# Altium schematic symbol library BJT.SchLib: 32 symbols
Pins are listed as number, name and electrical type; pins without a type are passive.

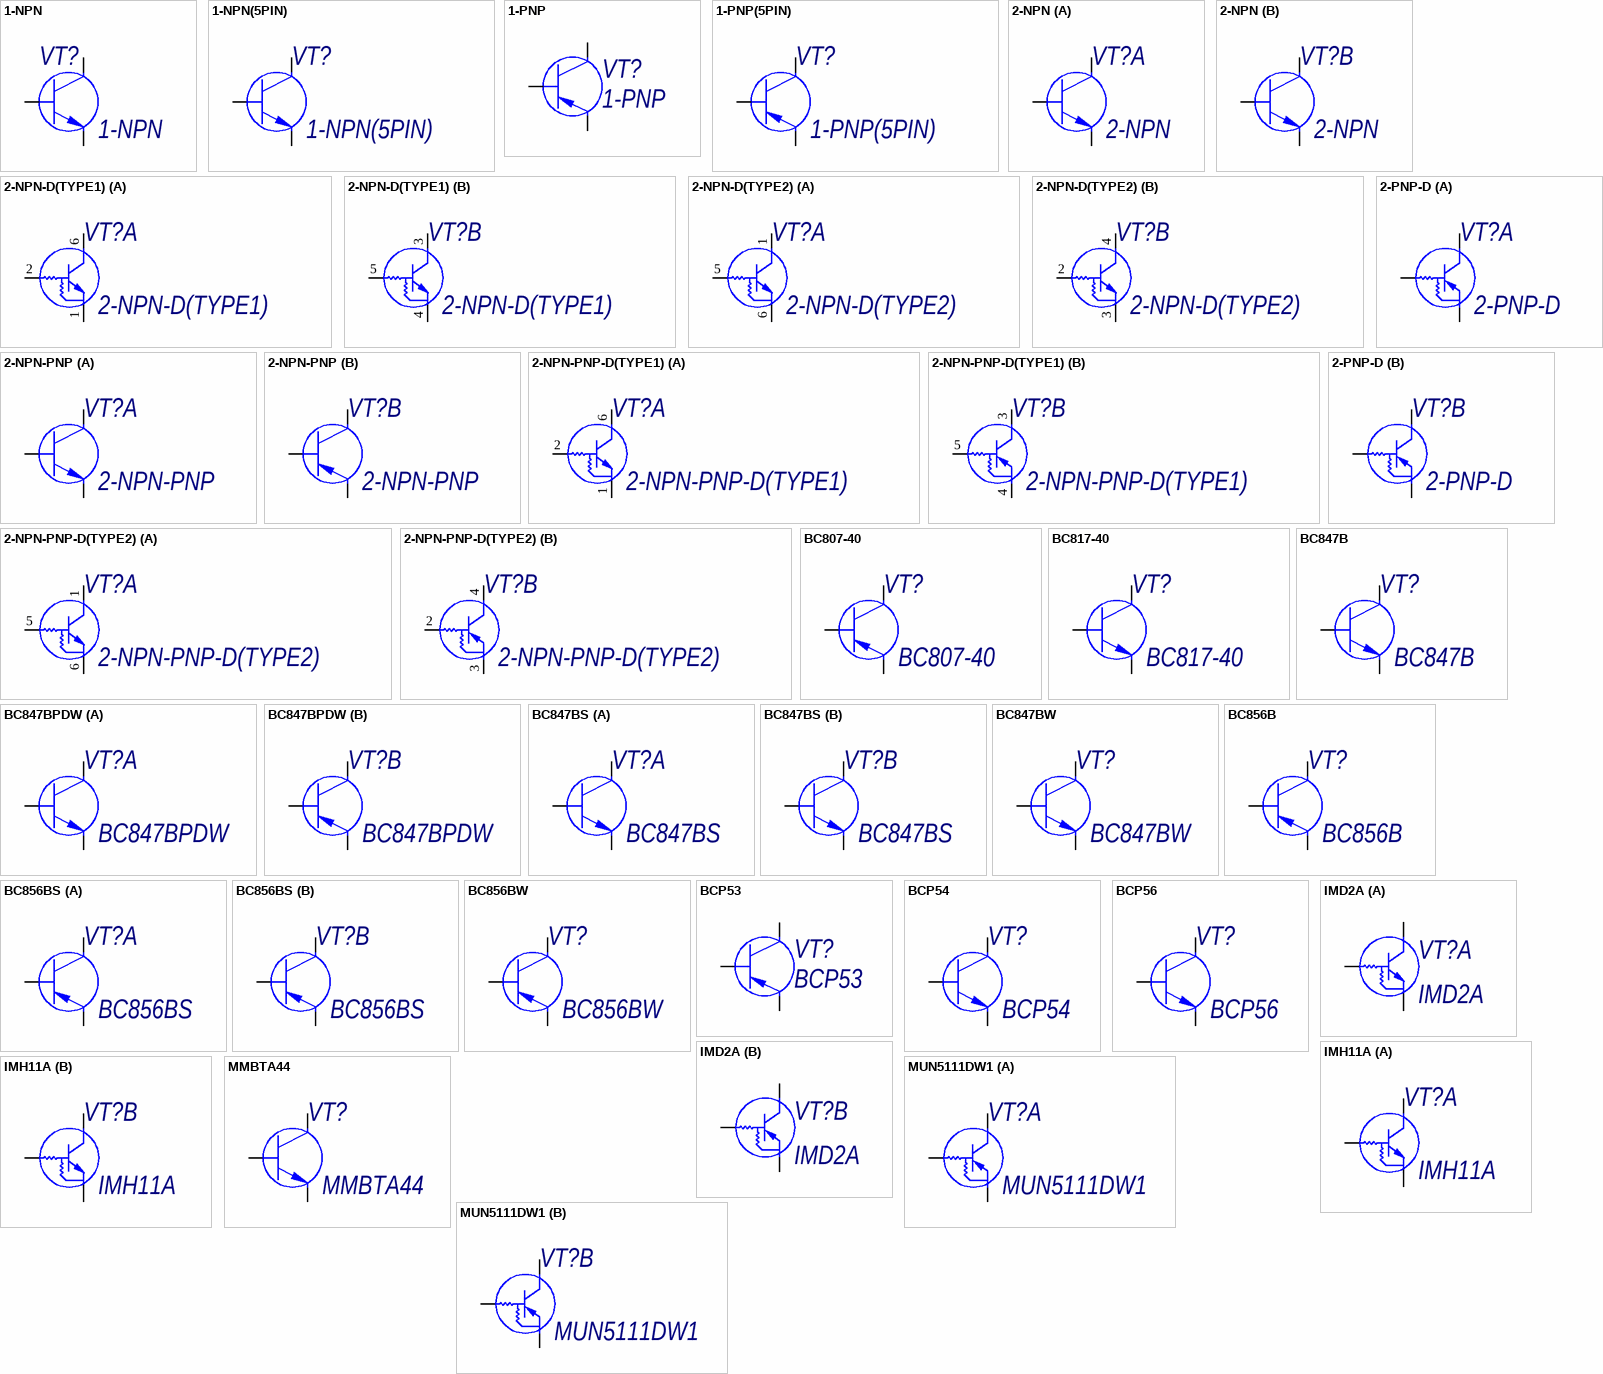
[diagram p0: symbols 1-NPN to MUN5111DW1]

## 1-NPN
designator VT?
ChannelType: NPN; ComponentType: Транзистор биполярный; ComponentDescription: =ComponentType+', '+ChannelType+', '+Comment+', '+Package
footprint SOT-23-3 (SOT23, 3-Leads, Body 2,90x2,30mm, Pitch 0,95mm, IPC Medium Density); pin to pad B>1 C>3 E>2
footprint TO-252 (D-PAK, 3-Pads, Body 6,20x6,71mm (max), IPC Medium Density); pin to pad B>1 C>4 E>3
footprint TO-220; pin to pad B>1 C>2 E>3
footprint TO-220-1A 2.54; pin to pad B>1 C>2 E>3
footprint SOT-89 (SOT89, 3-Leads, Body 4,50x2,50mm, Pitch 1,50mm, Lead Span 4,1mm, IPC Medium Density); pin to pad B>1 C>2 E>3
footprint TO-220-1A 2.54-LOW; pin to pad B>1 C>2 E>3
pins: B, C, E

## 1-NPN(5PIN)
designator VT?
ChannelType: NPN; ComponentType: Транзистор биполярный; ComponentDescription: =ComponentType+', '+ChannelType+', '+Comment+', '+Package
footprint 8-LFPAK56
pins: 1 E, 2 E, 3 E, 4 B, 5 C

## 1-PNP
designator VT?
ChannelType: PNP; ComponentType: Транзистор биполярный; ComponentDescription: =ComponentType+', '+ChannelType+', '+Comment+', '+Package
footprint SOT-23-3 (SOT23, 3-Leads, Body 2,90x2,30mm, Pitch 0,95mm, IPC Medium Density); pin to pad B>1 C>3 E>2
footprint TO-220; pin to pad B>1 C>2 E>3
footprint TO-220-1A 2.54; pin to pad B>1 C>2 E>3
footprint TO-220-1A 2.54-LOW; pin to pad B>1 C>2 E>3
footprint SOT-89 (SOT89, 3-Leads, Body 4,50x2,50mm, Pitch 1,50mm, Lead Span 4,1mm, IPC Medium Density); pin to pad B>1 C>2 E>3
pins: B, C, E

## 1-PNP(5PIN)
designator VT?
ChannelType: PNP; ComponentDescription: =ComponentType+', '+ChannelType+', '+Comment+', '+Package; ComponentType: Транзистор биполярный
footprint 8-LFPAK56
pins: 1 E, 2 E, 3 E, 4 B, 5 C

## 2-NPN
designator VT?
ComponentDescription: =ComponentType+', '+ChannelType+', '+Comment+', '+Package; ComponentType: Транзисторная сборка; ChannelType: 2-NPN
footprint SOT-323-6 (SOTFL, 6-Leads, Body 2,00x2,10mm, Pitch 0,65mm, IPC Medium Density)
part A pins: 1 E, 2 B, 6 C
part B pins: 3 C, 4 E, 5 B

## 2-NPN-D(TYPE1)
designator VT?
ChannelType: 2-NPN; ComponentDescription: =ComponentType+', '+ChannelType+', '+Comment+', '+Package; ComponentType: Цифровая сборка
footprint SOT-323-6 (SOTFL, 6-Leads, Body 2,00x2,10mm, Pitch 0,65mm, IPC Medium Density)
part A pins: 1 E, 2 B, 6 C
part B pins: 3 C, 4 E, 5 B

## 2-NPN-D(TYPE2)
designator VT?
ChannelType: 2-NPN; ComponentDescription: =ComponentType+', '+ChannelType+', '+Comment+', '+Package; ComponentType: Цифровая сборка
footprint SOT-457-6-R (SOP, 6-Leads, Body 3,18x1,80mm, Pitch 0,95mm, IPC Medium Density)
part A pins: 1 C, 5 B, 6 E
part B pins: 2 B, 3 E, 4 C

## 2-NPN-PNP
designator VT?
ComponentDescription: =ComponentType+', '+ChannelType+', '+Comment+', '+Package; ComponentType: Транзисторная сборка; ChannelType: NPN-PNP
footprint SOT-323-6 (SOTFL, 6-Leads, Body 2,00x2,10mm, Pitch 0,65mm, IPC Medium Density)
part A pins: 1 E, 2 B, 6 C
part B pins: 3 C, 4 E, 5 B

## 2-NPN-PNP-D(TYPE1)
designator VT?
ComponentDescription: =ComponentType+', '+ChannelType+', '+Comment+', '+Package; ComponentType: Цифровая сборка; ChannelType: NPN-PNP
footprint SOT-323-6 (SOTFL, 6-Leads, Body 2,00x2,10mm, Pitch 0,65mm, IPC Medium Density)
part A pins: 1 E, 2 B, 6 C
part B pins: 3 C, 4 E, 5 B

## 2-NPN-PNP-D(TYPE2)
designator VT?
ComponentDescription: =ComponentType+', '+ChannelType+', '+Comment+', '+Package; ComponentType: Цифровая сборка; ChannelType: NPN-PNP
footprint SOT-457-6-R (SOP, 6-Leads, Body 3,18x1,80mm, Pitch 0,95mm, IPC Medium Density)
part A pins: 1 C, 5 B, 6 E
part B pins: 2 B, 3 E, 4 C

## 2-PNP-D
designator VT?
ChannelType: 2-PNP; ComponentDescription: =ComponentType+', '+ChannelType+', '+Comment+', '+Package; ComponentType: Цифровая сборка
footprint SOT-323-6 (SOTFL, 6-Leads, Body 2,00x2,10mm, Pitch 0,65mm, IPC Medium Density)
footprint SOT-457-6-R (SOP, 6-Leads, Body 3,18x1,80mm, Pitch 0,95mm, IPC Medium Density)
part A pins: 1 E, 2 B, 6 C
part B pins: 3 C, 4 E, 5 B

## BC807-40
designator VT?
ChannelType: PNP; ComponentType: Транзистор биполярный; ComponentDescription: =ComponentType+', '+ChannelType+', '+Comment+', '+Package
footprint SOT-23-3 (SOT23, 3-Leads, Body 2,90x2,30mm, Pitch 0,95mm, IPC Medium Density)
pins: 1 B, 2 E, 3 C

## BC817-40
designator VT?
ChannelType: NPN; ComponentType: Транзистор биполярный; ComponentDescription: =ComponentType+', '+ChannelType+', '+Comment+', '+Package
footprint SOT-23-3 (SOT23, 3-Leads, Body 2,90x2,30mm, Pitch 0,95mm, IPC Medium Density)
pins: 1 B, 2 E, 3 C

## BC847B
designator VT?
ChannelType: NPN; ComponentType: Транзистор биполярный; ComponentDescription: =ComponentType+', '+ChannelType+', '+Comment+', '+Package
footprint SOT-23-3 (SOT23, 3-Leads, Body 2,90x2,30mm, Pitch 0,95mm, IPC Medium Density)
pins: 1 B, 2 E, 3 C

## BC847BPDW
designator VT?
ChannelType: NPN-PNP; ComponentDescription: =ComponentType+', '+ChannelType+', '+Comment+', '+Package; ComponentType: Транзисторная сборка
footprint SOT-323-6 (SOTFL, 6-Leads, Body 2,00x2,10mm, Pitch 0,65mm, IPC Medium Density)
part A pins: 1 E, 2 B, 6 C
part B pins: 3 C, 4 E, 5 B

## BC847BS
designator VT?
ChannelType: 2-NPN; ComponentDescription: =ComponentType+', '+ChannelType+', '+Comment+', '+Package; ComponentType: Транзисторная сборка
footprint SOT-323-6 (SOTFL, 6-Leads, Body 2,00x2,10mm, Pitch 0,65mm, IPC Medium Density)
part A pins: 1 E, 2 B, 6 C
part B pins: 3 C, 4 E, 5 B

## BC847BW
designator VT?
ChannelType: NPN; ComponentType: Транзистор биполярный; ComponentDescription: =ComponentType+', '+ChannelType+', '+Comment+', '+Package
footprint SOT-323-3 (SOT-323/SC-70; 3 Leads; Body 2.2 x 2.2 mm, inc. leads (LxW max))
pins: 1 B, 2 E, 3 C

## BC856B
designator VT?
ChannelType: PNP; ComponentType: Транзистор биполярный; ComponentDescription: =ComponentType+', '+ChannelType+', '+Comment+', '+Package
footprint SOT-23-3 (SOT23, 3-Leads, Body 2,90x2,30mm, Pitch 0,95mm, IPC Medium Density)
pins: 1 B, 2 E, 3 C

## BC856BS
designator VT?
ChannelType: 2-NPN; ComponentDescription: =ComponentType+', '+ChannelType+', '+Comment+', '+Package; ComponentType: Транзисторная сборка
footprint SOT-323-6 (SOTFL, 6-Leads, Body 2,00x2,10mm, Pitch 0,65mm, IPC Medium Density)
part A pins: 1 E, 2 B, 6 C
part B pins: 3 C, 4 E, 5 B

## BC856BW
designator VT?
ChannelType: PNP; ComponentType: Транзистор биполярный; ComponentDescription: =ComponentType+', '+ChannelType+', '+Comment+', '+Package
footprint SOT-323-3 (SOT-323/SC-70; 3 Leads; Body 2.2 x 2.2 mm, inc. leads (LxW max))
pins: 1 B, 2 E, 3 C

## BCP53
designator VT?
ChannelType: PNP; ComponentDescription: =ComponentType+', '+ChannelType+', '+Comment+', '+Package; ComponentType: Транзистор биполярный
footprint SOT-223-4 (SOT223, 4-Leads, Body 6,50x7,00mm (avg), Pitch 2,30mm, IPC Medium Density)
pins: 1 B, 2 C, 3 E

## BCP54
designator VT?
ChannelType: NPN; ComponentType: Транзистор биполярный; ComponentDescription: =ComponentType+', '+ChannelType+', '+Comment+', '+Package
footprint SOT-223-4 (SOT223, 4-Leads, Body 6,50x7,00mm (avg), Pitch 2,30mm, IPC Medium Density)
pins: 1 B, 2 C, 3 E

## BCP56
designator VT?
ChannelType: NPN; ComponentType: Транзистор биполярный; ComponentDescription: =ComponentType+', '+ChannelType+', '+Comment+', '+Package
footprint SOT-223-4 (SOT223, 4-Leads, Body 6,50x7,00mm (avg), Pitch 2,30mm, IPC Medium Density)
pins: 1 B, 2 C, 3 E

## IMD2A
designator VT?
ChannelType: NPN-PNP; ComponentDescription: =ComponentType+', '+ChannelType+', '+Comment+', '+Package; ComponentType: Цифровая сборка
footprint SOT-457-6-R (SOP, 6-Leads, Body 3,18x1,80mm, Pitch 0,95mm, IPC Medium Density)
part A pins: 1 C, 5 B, 6 E
part B pins: 2 B, 3 E, 4 C

## IMH11A
designator VT?
ChannelType: 2-NPN; ComponentDescription: =ComponentType+', '+ChannelType+', '+Comment+', '+Package; ComponentType: Цифровая сборка
footprint SOT-457-6-R (SOP, 6-Leads, Body 3,18x1,80mm, Pitch 0,95mm, IPC Medium Density)
part A pins: 1 C, 5 B, 6 E
part B pins: 2 B, 3 E, 4 C

## MMBTA44
designator VT?
ChannelType: NPN; ComponentType: Транзистор биполярный; ComponentDescription: =ComponentType+', '+ChannelType+', '+Comment+', '+Package
footprint SOT-23-3 (SOT23, 3-Leads, Body 2,90x2,30mm, Pitch 0,95mm, IPC Medium Density)
pins: 1 B, 2 E, 3 C

## MUN5111DW1
designator VT?
ChannelType: 2-PNP; ComponentDescription: =ComponentType+', '+ChannelType+', '+Comment+', '+Package; ComponentType: Цифровая сборка
footprint SOT-323-6 (SOTFL, 6-Leads, Body 2,00x2,10mm, Pitch 0,65mm, IPC Medium Density)
part A pins: 1 E, 2 B, 6 C
part B pins: 3 C, 4 E, 5 B

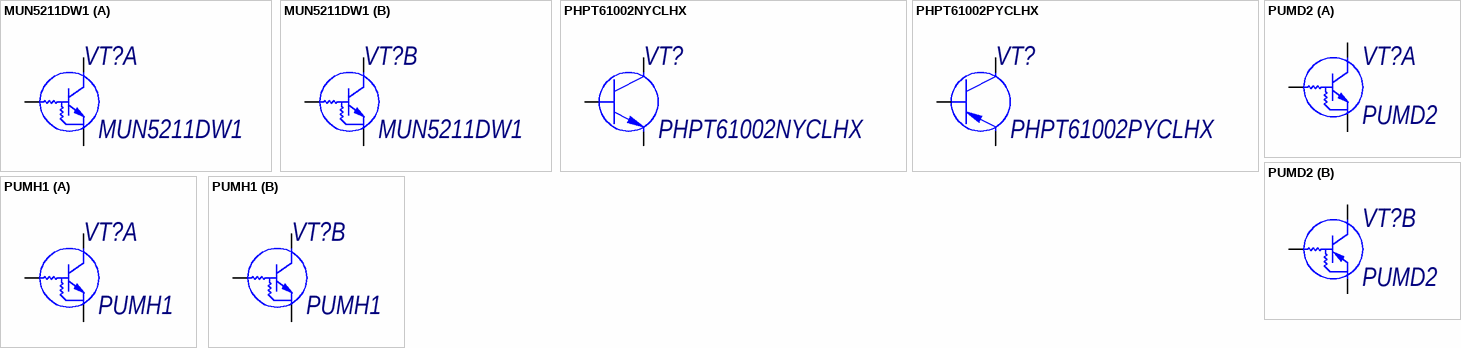
[diagram p1: symbols MUN5211DW1 to PUMH1]

## MUN5211DW1
designator VT?
ChannelType: 2-NPN; ComponentDescription: =ComponentType+', '+ChannelType+', '+Comment+', '+Package; ComponentType: Цифровая сборка
footprint SOT-323-6 (SOTFL, 6-Leads, Body 2,00x2,10mm, Pitch 0,65mm, IPC Medium Density)
part A pins: 1 E, 2 B, 6 C
part B pins: 3 C, 4 E, 5 B

## PHPT61002NYCLHX
designator VT?
ChannelType: NPN; ComponentType: Транзистор биполярный; ComponentDescription: =ComponentType+', '+ChannelType+', '+Comment+', '+Package
footprint 8-LFPAK56; pin to pad 1>1+2+3
pins: 1 E, 4 B, 5 C

## PHPT61002PYCLHX
designator VT?
ChannelType: PNP; ComponentDescription: =ComponentType+', '+ChannelType+', '+Comment+', '+Package; ComponentType: Транзистор биполярный
footprint 8-LFPAK56
pins: 1 E, 2 E, 3 E, 4 B, 5 C

## PUMD2
designator VT?
ChannelType: NPN-PNP; ComponentDescription: =ComponentType+', '+ChannelType+', '+Comment+', '+Package; ComponentType: Цифровая сборка
footprint SOT-323-6 (SOTFL, 6-Leads, Body 2,00x2,10mm, Pitch 0,65mm, IPC Medium Density)
part A pins: 1 E, 2 B, 6 C
part B pins: 3 C, 4 E, 5 B

## PUMH1
designator VT?
ChannelType: 2-NPN; ComponentDescription: =ComponentType+', '+ChannelType+', '+Comment+', '+Package; ComponentType: Цифровая сборка
footprint SOT-323-6 (SOTFL, 6-Leads, Body 2,00x2,10mm, Pitch 0,65mm, IPC Medium Density)
part A pins: 1 E, 2 B, 6 C
part B pins: 3 C, 4 E, 5 B